# Altium schematic symbol library LT8410EDC#TRMPBF.Schlib: 1 symbol
Pins are listed as number, name and electrical type; pins without a type are passive.

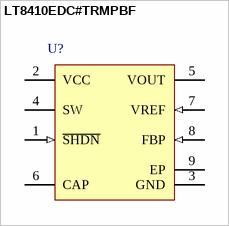
[diagram p0: symbol LT8410EDC#TRMPBF]

## LT8410EDC#TRMPBF
designator U?
Ultralow Power Boost Converter with Output Disconnect, 8-pin SON (DC8), -40 to 125 degC, Pb-Free, Mini Tape and Reel
pins: 1 ~{SHDN} (in) "Shutdown Pin. This pin is used to enable/disable the chip. Drive below 0.3V to disable the chip. Drive above 1.45V to activate the chip. Do not float this pin.", 2 VCC (power) "Input Supply Pin. Must be locally bypassed to GND. See the Typical Applications section.", 3 GND (power) "Ground. Tie directly to local ground plane.", 4 SW "Switch Pin. This is the collector of the internal NPN power switch. Minimize the metal trace area connected to this pin to minimize EMI.", 5 VOUT (power) "Drain of Output Disconnect PMOS. Place a bypass capacitor from this pin to GND.", 6 CAP "Cathode of the Internal Schottky Diode. Place a bypass capacitor from this pin to GND.", 7 VREF (in) "Reference Pin. Soft-start can be achieved by placing a capacitor from this pin to GND. This cap will be discharged for 70us (typical) at the beginning of start-up and then be charged to 1.235V with a 10uA current source.", 8 FBP (in) "Positive Feedback Pin. This pin is the error amplifier’s positive input terminal. To achieve the desired output voltage, choose the FBP pin voltage (VFBP) according to the following formula: VFBP=VOUT/31.85, For protectio(See Datasheet)", 9 EP (power) "Pin 9 is floating but must be grounded for proper shielding."